# Altium integrated library nrf5340_qkaa.IntLib: 17 symbols
Pins are listed as number, name and electrical type; pins without a type are passive.

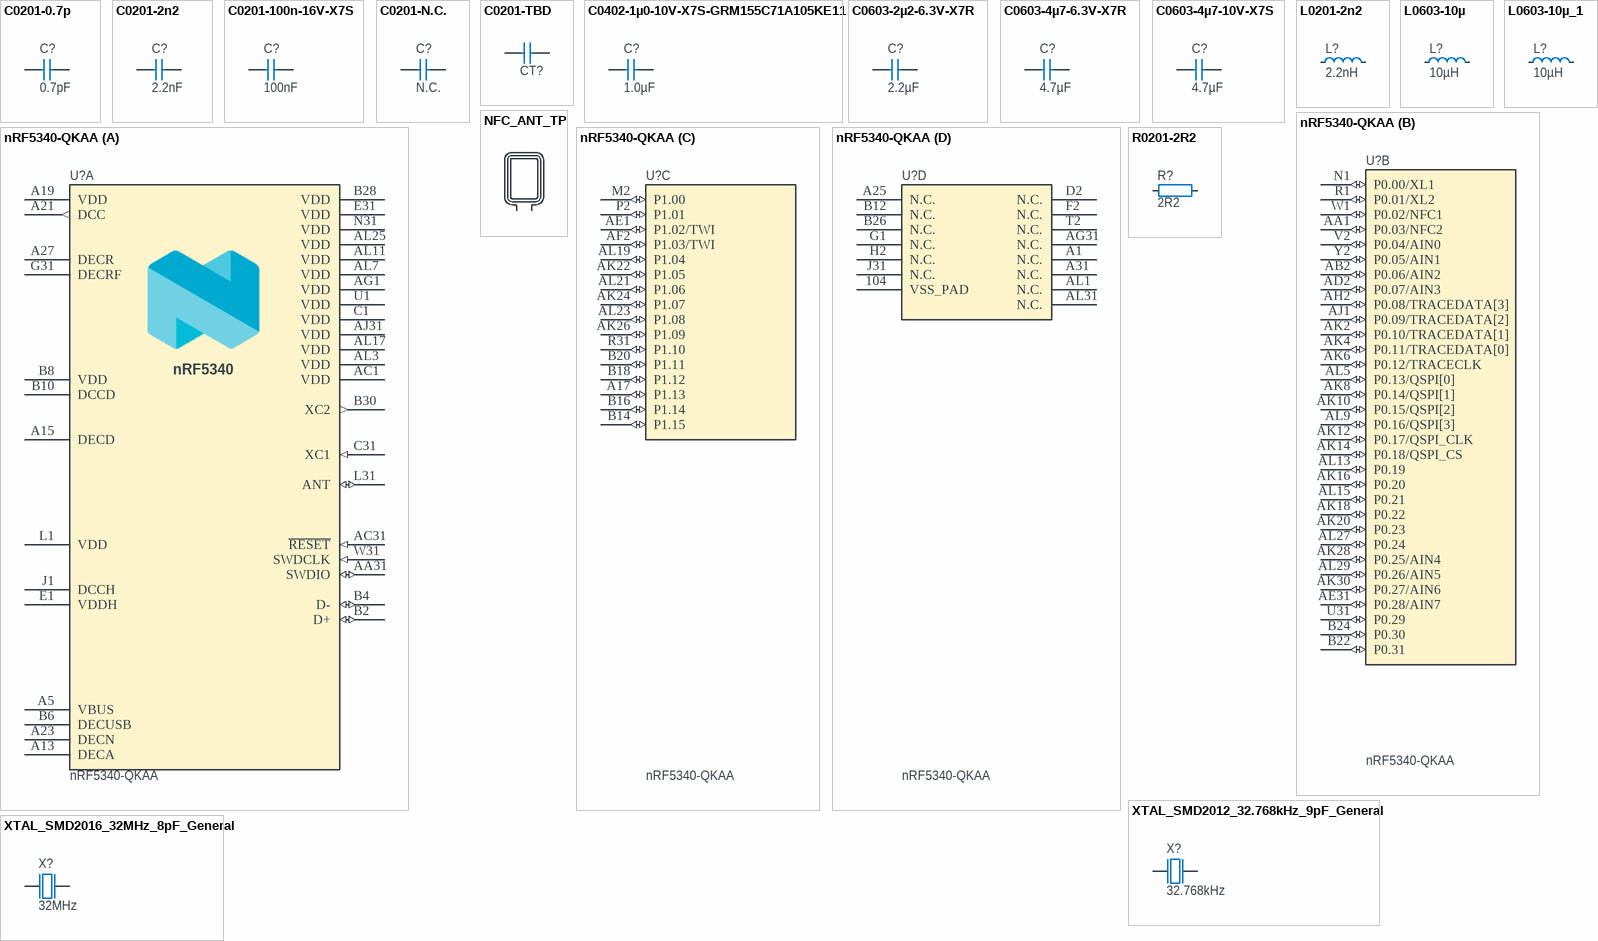
[diagram p0: symbols C0201-0.7p to XTAL_SMD2016_32MHz_8pF_General]

## C0201-0.7p
designator C?, comment 0.7pF
Capacitor, NP0, ±0.05pF; Pad Count: 2; Value: 0.7pF; Footprint Doc: 0201; Component Class: Capacitors; Author: rsk
footprint CAPC0603X03L_C
pins: 1, 2

## C0201-2n2
designator C?, comment 2.2nF
Capacitor, X7R, ±10%; Pad Count: 2; Value: 2.2nF; Footprint Doc: 0201; Component Class: Capacitors; Author: rsk
footprint CAPC0603X03L_C
pins: 1, 2

## C0201-100n-16V-X7S
designator C?, comment 100nF
Capacitor, X7S, ±10%; Pad Count: 2; Value: 100nF; Footprint Doc: 0201; Component Class: Capacitors; Author: rsk
footprint CAPC0603X03L_C
pins: 1, 2

## C0201-N.C.
designator C?, comment N.C.
Not mounted; Assembly: Not mounted; Pad Count: 2; Value: N.C.; Footprint Doc: 0201; Component Class: Capacitors; Author: rsk
footprint CAPC0603X03L_C_NC
pins: 1, 2

## C0201-TBD
designator CT?, comment Antenna dependent  (value not drawn)
Capacitor, NP0, ±5%; Pad Count: 2; Footprint Doc: 0201; Value: Antenna dependent; Component Class: Capacitors; Author: rsk
footprint CAPC0603X03L_C
pins: 1, 2

## C0402-1µ0-10V-X7S-GRM155C71A105KE11
designator C?, comment 1.0µF
Capacitor, X7S, ±10%; Pad Count: 2; Value: 1.0µF; Footprint Doc: 0402; Component Class: Capacitors; Author: prbu
footprint CAPC1005X04L
pins: 1, 2

## C0603-2µ2-6.3V-X7R
designator C?, comment 2.2µF
Capacitor, X7R, ±10%; Pad Count: 2; Value: 2.2µF; Footprint Doc: 0603; Component Class: Capacitors; Author: rsk
footprint CAPC1608X06L
pins: 1, 2

## C0603-4µ7-6.3V-X7R
designator C?, comment 4.7µF
Capacitor, X7R, ±10%; Pad Count: 2; Value: 4.7µF; Footprint Doc: 0603; Component Class: Capacitors; Author: rsk
footprint CAPC1608X06L
pins: 1, 2

## C0603-4µ7-10V-X7S
designator C?, comment 4.7µF
Capacitor, X7S, ±10%; Pad Count: 2; Value: 4.7µF; Footprint Doc: 0603; Component Class: Capacitors; Author: rsk
footprint CAPC1608X06L
pins: 1, 2

## L0201-2n2
designator L?, comment 2.2nH
High frequency chip inductor, ±5%; Pad Count: 2; Footprint Doc: 0201; Value: 2.2nH; Component Class: Inductors; Author: rsk
footprint INDC0603X03L_C
pins: 1, 2

## L0603-10µ
designator L?, comment 10µH
Chip Inductor, IDC,min = 50 mA, ±20%; Pad Count: 2; Value: 10µH; Footprint Doc: 0603; Component Class: Inductors; Author: rsk
footprint INDC1608X06L
pins: 1, 2

## L0603-10µ_1
designator L?, comment 10µH
Chip Inductor, IDC,min = 80 mA, ±20%; Pad Count: 2; Value: 10µH; Footprint Doc: 0603; Component Class: Inductors; Author: rsk
footprint INDC1608X06L
pins: 1, 2

## NFC_ANT_TP
designator A?, comment NFC Antenna  (value not drawn)  (no BOM)
Pad Count: 2; Footprint Doc: TP_2x1mm_TH; Value: NFC Antenna; Component Class: Antennas; Author: rsk
footprint TP_2x1mm_TH
pins: 1, 2

## nRF5340-QKAA
designator U?
Multi-protocol Bluetooth Low Energy, IEEE 802.15.4, ANT and 2.4GHz proprietary system-on-chip; Pad Count: 98; Footprint Doc: AQFN-98; Value: nRF5340-QKAA; Component Class: nRF_Devices
footprint AQFN40P700X700X85_HS-99N
part A pins: A5 VBUS (power), A13 DECA (power), A15 DECD (power), A19 VDD (power), A21 DCC (out), A23 DECN (power), A27 DECR (power), AA31 SWDIO (io), AC1 VDD (power), AC31 ~{RESET} (in), AG1 VDD (power), AJ31 VDD (power), AL3 VDD (power), AL7 VDD (power), AL11 VDD (power), AL17 VDD (power), AL25 VDD (power), B2 D+ (io), B4 D- (io), B6 DECUSB (power), B8 VDD (power), B10 DCCD (power), B28 VDD (power), B30 XC2 (out), C1 VDD (power), C31 XC1 (in), E1 VDDH (power), E31 VDD (power), G31 DECRF (power), J1 DCCH (power), L1 VDD (power), L31 ANT (io), N31 VDD (power), U1 VDD (power), W31 SWDCLK (in)
part B pins: AA1 P0.03/NFC2 (io), AB2 P0.06/AIN2 (io), AD2 P0.07/AIN3 (io), AE31 P0.28/AIN7 (io), AH2 P0.08/TRACEDATA[3] (io), AJ1 P0.09/TRACEDATA[2] (io), AK2 P0.10/TRACEDATA[1] (io), AK4 P0.11/TRACEDATA[0] (io), AK6 P0.12/TRACECLK (io), AK8 P0.14/QSPI[1] (io), AK10 P0.15/QSPI[2] (io), AK12 P0.17/QSPI_CLK (io), AK14 P0.18/QSPI_CS (io), AK16 P0.20 (io), AK18 P0.22 (io), AK20 P0.23 (io), AK28 P0.25/AIN4 (io), AK30 P0.27/AIN6 (io), AL5 P0.13/QSPI[0] (io), AL9 P0.16/QSPI[3] (io), AL13 P0.19 (io), AL15 P0.21 (io), AL27 P0.24 (io), AL29 P0.26/AIN5 (io), B22 P0.31 (io), B24 P0.30 (io), N1 P0.00/XL1 (io), R1 P0.01/XL2 (io), U31 P0.29 (io), V2 P0.04/AIN0 (io), W1 P0.02/NFC1 (io), Y2 P0.05/AIN1 (io)
part C pins: A17 P1.13 (io), AE1 P1.02/TWI (io), AF2 P1.03/TWI (io), AK22 P1.05 (io), AK24 P1.07 (io), AK26 P1.09 (io), AL19 P1.04 (io), AL21 P1.06 (io), AL23 P1.08 (io), B14 P1.15 (io), B16 P1.14 (io), B18 P1.12 (io), B20 P1.11 (io), M2 P1.00 (io), P2 P1.01 (io), R31 P1.10 (io)
part D pins: 104 VSS_PAD (power), A1 N.C., A25 N.C., A31 N.C., AG31 N.C., AL1 N.C., AL31 N.C., B12 N.C., B26 N.C., D2 N.C., F2 N.C., G1 N.C., H2 N.C., J31 N.C., T2 N.C.
part A text: nRF5340

## R0201-2R2
designator R?, comment 2R2
Resistor, ±1%, 0.05W; Pad Count: 2; Footprint Doc: 0201; Value: 2R2; Component Class: Resistors; Author: rsk
footprint RESC0603X03L_C
pins: 1, 2

## XTAL_SMD2012_32.768kHz_9pF_General
designator X?, comment 32.768kHz
XTAL SMD 2012, 32.768kHz, Cl=9pF, Total Tol: ±50ppm; Pad Count: 2; Value: 32.768kHz; Footprint Doc: XTAL_2012; Component Class: Oscillators; Author: rsk
footprint XTAL_2012
pins: 1 inp, 2 out

## XTAL_SMD2016_32MHz_8pF_General
designator X?, comment 32MHz
XTAL SMD 2016, 32MHz, Cl=8pF, Total Tol: ±30ppm; Pad Count: 4; Value: 32MHz; Footprint Doc: XTAL_2016; Component Class: Oscillators; Author: rsk
footprint BT-XTAL_2016
pins: 1 inp, 2 GND hidden to GND, 3 out, 4 GND hidden to GND